# Altium schematic symbol library transistor_pmos.SchLib: 10 symbols
Pins are listed as number, name and electrical type; pins without a type are passive.

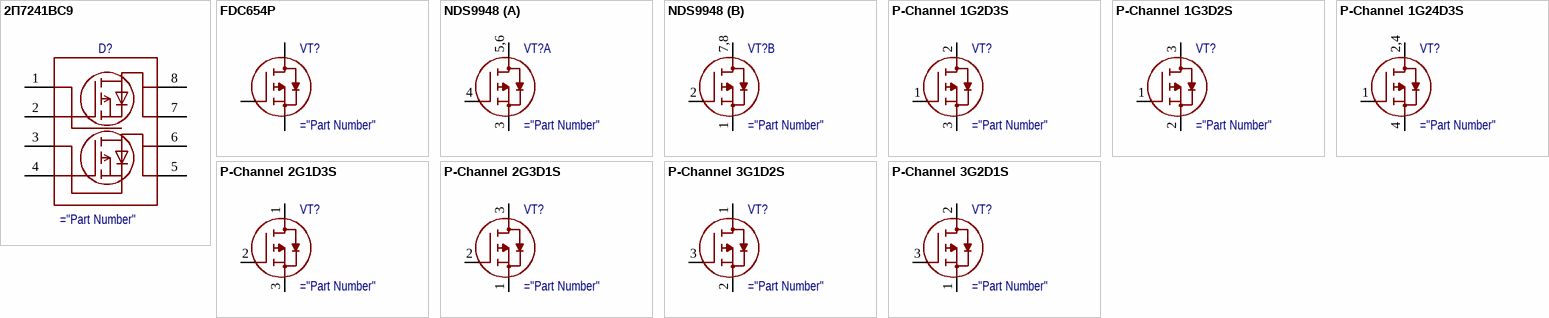
[diagram p0: symbols 2П7241ВС9 to P-Channel 3G2D1S]

## 2П7241ВС9
designator D?
Dual P-MOSFET
pins: 1 S1, 2 G1, 3 S2, 4 G2, 5 D2, 6 D2, 7 D1, 8 D1

## FDC654P
designator VT?
P-MOSFET
pins: 1 S, 2 D, 3 G, 4 G, 5 D, 6 D

## NDS9948
designator VT?
Dual 60V P-MOSFET
part A pins: 3 S, 4 G, 5,6 D
part B pins: 1 S, 2 G, 7,8 D

## P-Channel 1G2D3S
designator VT?
P-MOSFET
pins: 1 G, 2 D, 3 S

## P-Channel 1G3D2S
designator VT?
P-MOSFET
pins: 1 G, 2 S, 3 D

## P-Channel 1G24D3S
designator VT?
P-MOSFET
pins: 1 G, 2,4 D, 4 S

## P-Channel 2G1D3S
designator VT?
P-MOSFET
pins: 1 D, 2 G, 3 S

## P-Channel 2G3D1S
designator VT?
P-MOSFET
pins: 1 S, 2 G, 3 D

## P-Channel 3G1D2S
designator VT?
P-MOSFET
pins: 1 D, 2 S, 3 G

## P-Channel 3G2D1S
designator VT?
P-MOSFET
pins: 1 S, 2 D, 3 G